# EAGLE library part AD8232ACPZ-R7 (library ad8232)
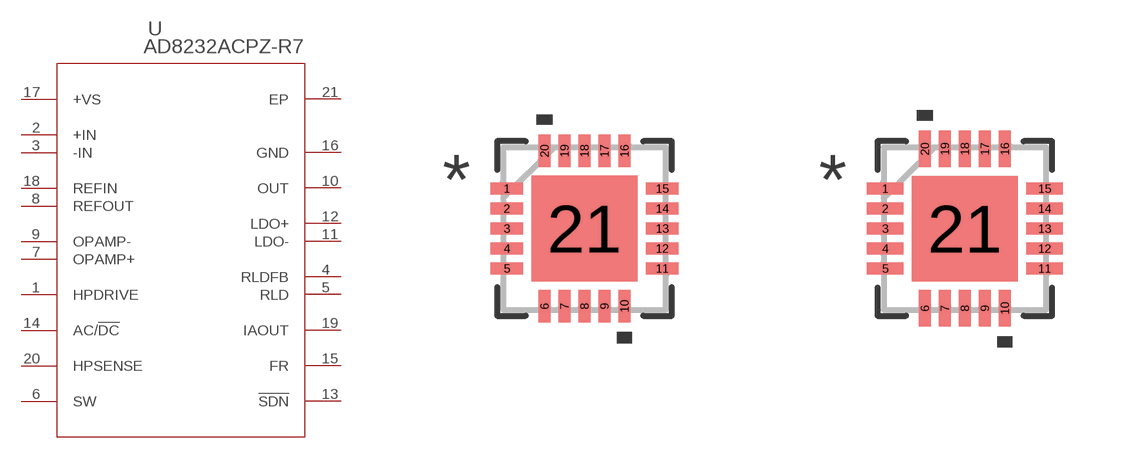
[diagram p0: symbol with the pads of CP_20_10; footprints CP_20_10, CP_20_10-M]

Designator prefix U

## AD8232ACPZ-R7 (MANUFACTURER_PART_NUMBER: AD8232ACPZR7; VENDOR: Analog Devices Inc)  [CP_20_10]
1  HPDRIVE  pas
2  +IN  pas
3  -IN  pas
4  RLDFB  pas
5  RLD  pas
6  SW  pas
7  OPAMP+  pas
8  REFOUT  pas
9  OPAMP-  pas
10  OUT  pas
11  LDO-  pas
12  LDO+  pas
13  !SDN  pas
14  AC/!DC  pas
15  FR  pas
16  GND  pas
17  +VS  pas
18  REFIN  pas
19  IAOUT  pas
20  HPSENSE  pas
21  EP  pas

## AD8232ACPZ-R7CP_20_10-M (MANUFACTURER_PART_NUMBER: AD8232ACPZR7; VENDOR: Analog Devices Inc)  [CP_20_10-M]
Pads as for CP_20_10

## AD8232ACPZ-R7CP_20_10-L (MANUFACTURER_PART_NUMBER: AD8232ACPZR7; VENDOR: Analog Devices Inc)  [CP_20_10-L]
Pads as for CP_20_10

## Footprint CP_20_10 (pad centres in mm)
smd 0.813 x 0.305: 1 -1.943,1; 2 -1.943,0.5; 3 -1.943,0; 4 -1.943,-0.5; 5 -1.943,-1; 11 1.943,-1; 12 1.943,-0.5; 13 1.943,0; 14 1.943,0.5; 15 1.943,1
smd 0.305 x 0.813: 6 -1,-1.943; 7 -0.5,-1.943; 8 0,-1.943; 9 0.5,-1.943; 10 1,-1.943; 16 1,1.943; 17 0.5,1.943; 18 0,1.943; 19 -0.5,1.943; 20 -1,1.943
smd 2.642 x 2.642: 21 0,0

## Footprint CP_20_10-M (pad centres in mm)
smd 0.914 x 0.305: 1 -1.994,1; 2 -1.994,0.5; 3 -1.994,0; 4 -1.994,-0.5; 5 -1.994,-1; 11 1.994,-1; 12 1.994,-0.5; 13 1.994,0; 14 1.994,0.5; 15 1.994,1
smd 0.305 x 0.914: 6 -1,-1.994; 7 -0.5,-1.994; 8 0,-1.994; 9 0.5,-1.994; 10 1,-1.994; 16 1,1.994; 17 0.5,1.994; 18 0,1.994; 19 -0.5,1.994; 20 -1,1.994
smd 2.642 x 2.642: 21 0,0

## Footprint CP_20_10-L (pad centres in mm)
smd 0.711 x 0.305: 1 -1.892,1; 2 -1.892,0.5; 3 -1.892,0; 4 -1.892,-0.5; 5 -1.892,-1; 11 1.892,-1; 12 1.892,-0.5; 13 1.892,0; 14 1.892,0.5; 15 1.892,1
smd 0.305 x 0.711: 6 -1,-1.892; 7 -0.5,-1.892; 8 0,-1.892; 9 0.5,-1.892; 10 1,-1.892; 16 1,1.892; 17 0.5,1.892; 18 0,1.892; 19 -0.5,1.892; 20 -1,1.892
smd 2.642 x 2.642: 21 0,0